# Altium schematic symbol library U.FL.Schlib: 1 symbol
Pins are listed as number, name and electrical type; pins without a type are passive.

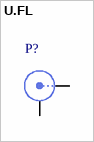
[diagram p0: symbol U.FL]

## U.FL
designator P?  (value not drawn)
U.FL connector
pins: 1 X, 2 Y